# EAGLE library part PCA9515 (library texas-instruments)
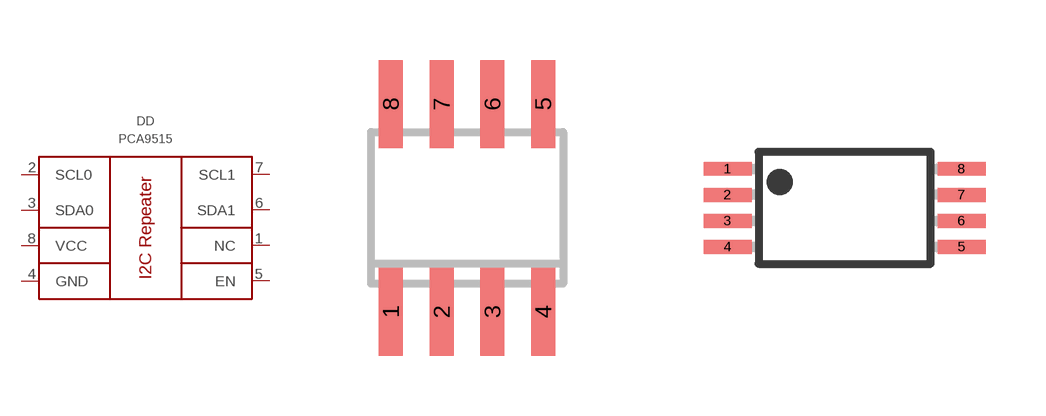
[diagram p32: symbol with the pads of SOIC8; footprints SOIC8, TSSOP8]

Designator prefix DD

## PCA9515AD  [SOIC8]
1  NC  nc
2  SCL0
3  SDA0
4  GND  pwr
5  EN  in
6  SDA1
7  SCL1
8  VCC  nc

## PCA9515APW  [TSSOP8]
Pads as for SOIC8

## PCA9515ADGK  [MSOP8]
Pads as for SOIC8

## Footprint SOIC8 (pad centres in mm)
Small Outline IC
smd 0.6 x 2.2: 1 -1.905,-2.6; 2 -0.635,-2.6; 3 0.635,-2.6; 4 1.905,-2.6; 5 1.905,2.6; 6 0.635,2.6; 7 -0.635,2.6; 8 -1.905,2.6

## Footprint TSSOP8 (pad centres in mm)
Plastic Small Outline
smd 1.2 x 0.35: 1 -2.925,0.975; 2 -2.925,0.325; 3 -2.925,-0.325; 4 -2.925,-0.975; 5 2.925,-0.975; 6 2.925,-0.325; 7 2.925,0.325; 8 2.925,0.975

## Footprint MSOP8 (pad centres in mm)
Micro Small Outline Package Grid .65mm
smd 0.45 x 1: 1 -0.975,-2.05; 2 -0.325,-2.05; 3 0.325,-2.05; 4 0.975,-2.05; 5 0.975,2.05; 6 0.325,2.05; 7 -0.325,2.05; 8 -0.975,2.05